# Altium integrated library ALTIUM-WE-PD2-HV-rev17a.IntLib: 9 symbols
Pins are listed as number, name and electrical type; pins without a type are passive.

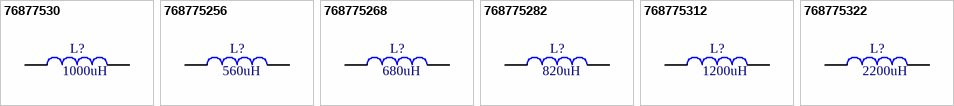
[diagram p0: symbols 76877530 to 768775322]

## 76877530
designator L?  value 1000uH
WE-PD2 HV SMD High Voltage Power Inductor, size 7850, 0.3A, 3.3Ω, 1000uH; Part Number: 76877530; DC Resistance: 3.3Ω max.; ComponentLink1Description: Manufacturer; ComponentLink1URL: http://www.we-online.de; ComponentLink2Description: Datasheet; ComponentLink2URL: http://katalog.we-online.de/pbs/datasheet/76877530.pdf; Published Date: July 2017; Publisher: Wurth Elektronik; Rated Current: 0.3A; Size: 7850
footprint WE-PD2 HV_7850
pins: 1, 2

## 768775256
designator L?  value 560uH
WE-PD2 HV SMD High Voltage Power Inductor, size 7850, 0.41A, 2.08Ω, 560uH; Part Number: 768775256; DC Resistance: 2.08Ω max.; ComponentLink1Description: Manufacturer; ComponentLink1URL: http://www.we-online.de; ComponentLink2Description: Datasheet; ComponentLink2URL: http://katalog.we-online.de/pbs/datasheet/768775256.pdf; Published Date: July 2017; Publisher: Wurth Elektronik; Rated Current: 0.41A; Size: 7850
footprint WE-PD2 HV_7850
pins: 1, 2

## 768775268
designator L?  value 680uH
WE-PD2 HV SMD High Voltage Power Inductor, size 7850, 0.38A, 2.4Ω, 680uH; Part Number: 768775268; DC Resistance: 2.4Ω max.; ComponentLink1Description: Manufacturer; ComponentLink1URL: http://www.we-online.de; ComponentLink2Description: Datasheet; ComponentLink2URL: http://katalog.we-online.de/pbs/datasheet/768775268.pdf; Published Date: July 2017; Publisher: Wurth Elektronik; Rated Current: 0.38A; Size: 7850
footprint WE-PD2 HV_7850
pins: 1, 2

## 768775282
designator L?  value 820uH
WE-PD2 HV SMD High Voltage Power Inductor, size 7850, 0.35A, 2.77Ω, 820uH; Part Number: 768775282; DC Resistance: 2.77Ω max.; ComponentLink1Description: Manufacturer; ComponentLink1URL: http://www.we-online.de; ComponentLink2Description: Datasheet; ComponentLink2URL: http://katalog.we-online.de/pbs/datasheet/768775282.pdf; Published Date: July 2017; Publisher: Wurth Elektronik; Rated Current: 0.35A; Size: 7850
footprint WE-PD2 HV_7850
pins: 1, 2

## 768775312
designator L?  value 1200uH
WE-PD2 HV SMD High Voltage Power Inductor, size 7850, 0.28A, 4.5Ω, 1200uH; Part Number: 768775312; DC Resistance: 4.5Ω max.; ComponentLink1Description: Manufacturer; ComponentLink1URL: http://www.we-online.de; ComponentLink2Description: Datasheet; ComponentLink2URL: http://katalog.we-online.de/pbs/datasheet/768775312.pdf; Published Date: July 2017; Publisher: Wurth Elektronik; Rated Current: 0.28A; Size: 7850
footprint WE-PD2 HV_7850
pins: 1, 2

## 768775322
designator L?  value 2200uH
WE-PD2 HV SMD High Voltage Power Inductor, size 7850, 0.15A, 7.2Ω, 2200uH; Part Number: 768775322; DC Resistance: 7.2Ω max.; ComponentLink1Description: Manufacturer; ComponentLink1URL: http://www.we-online.de; ComponentLink2Description: Datasheet; ComponentLink2URL: http://katalog.we-online.de/pbs/datasheet/768775322.pdf; Published Date: July 2017; Publisher: Wurth Elektronik; Rated Current: 0.15A; Size: 7850
footprint WE-PD2 HV_7850
pins: 1, 2


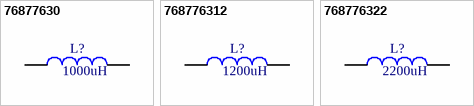
[diagram p1: symbols 76877630 to 768776322]

## 76877630
designator L?  value 1000uH
WE-PD2 HV SMD High Voltage Power Inductor, size 1054, 0.38A, 2.6Ω, 1000uH; Part Number: 76877630; DC Resistance: 2.6Ω max.; ComponentLink1Description: Manufacturer; ComponentLink1URL: http://www.we-online.de; ComponentLink2Description: Datasheet; ComponentLink2URL: http://katalog.we-online.de/pbs/datasheet/76877630.pdf; Published Date: July 2017; Publisher: Wurth Elektronik; Rated Current: 0.38A; Size: 1054
footprint WE-PD2 HV_1054
pins: 1, 2

## 768776312
designator L?  value 1200uH
WE-PD2 HV SMD High Voltage Power Inductor, size 1054, 0.35A, 3Ω, 1200uH; Part Number: 768776312; DC Resistance: 3Ω max.; ComponentLink1Description: Manufacturer; ComponentLink1URL: http://www.we-online.de; ComponentLink2Description: Datasheet; ComponentLink2URL: http://katalog.we-online.de/pbs/datasheet/768776312.pdf; Published Date: July 2017; Publisher: Wurth Elektronik; Rated Current: 0.35A; Size: 1054
footprint WE-PD2 HV_1054
pins: 1, 2

## 768776322
designator L?  value 2200uH
WE-PD2 HV SMD High Voltage Power Inductor, size 1054, 0.18A, 5.3Ω, 2200uH; Part Number: 768776322; DC Resistance: 5.3Ω max.; ComponentLink1Description: Manufacturer; ComponentLink1URL: http://www.we-online.de; ComponentLink2Description: Datasheet; ComponentLink2URL: http://katalog.we-online.de/pbs/datasheet/768776322.pdf; Published Date: July 2017; Publisher: Wurth Elektronik; Rated Current: 0.18A; Size: 1054
footprint WE-PD2 HV_1054
pins: 1, 2